# Altium footprint library Tomra_Altium_Footprints.PcbLib: 43 footprints (part 3 of 3)
Each footprint in its own frame and in the unit in brackets; x right, y up, seen from the top. Pads: shape width x height; smd on the part's side, far side on the other; paste and mask are expansions set on the pad; w line width, h text height; cw(c..) or ccw(c..) is an arc to the next point about the centre after c.
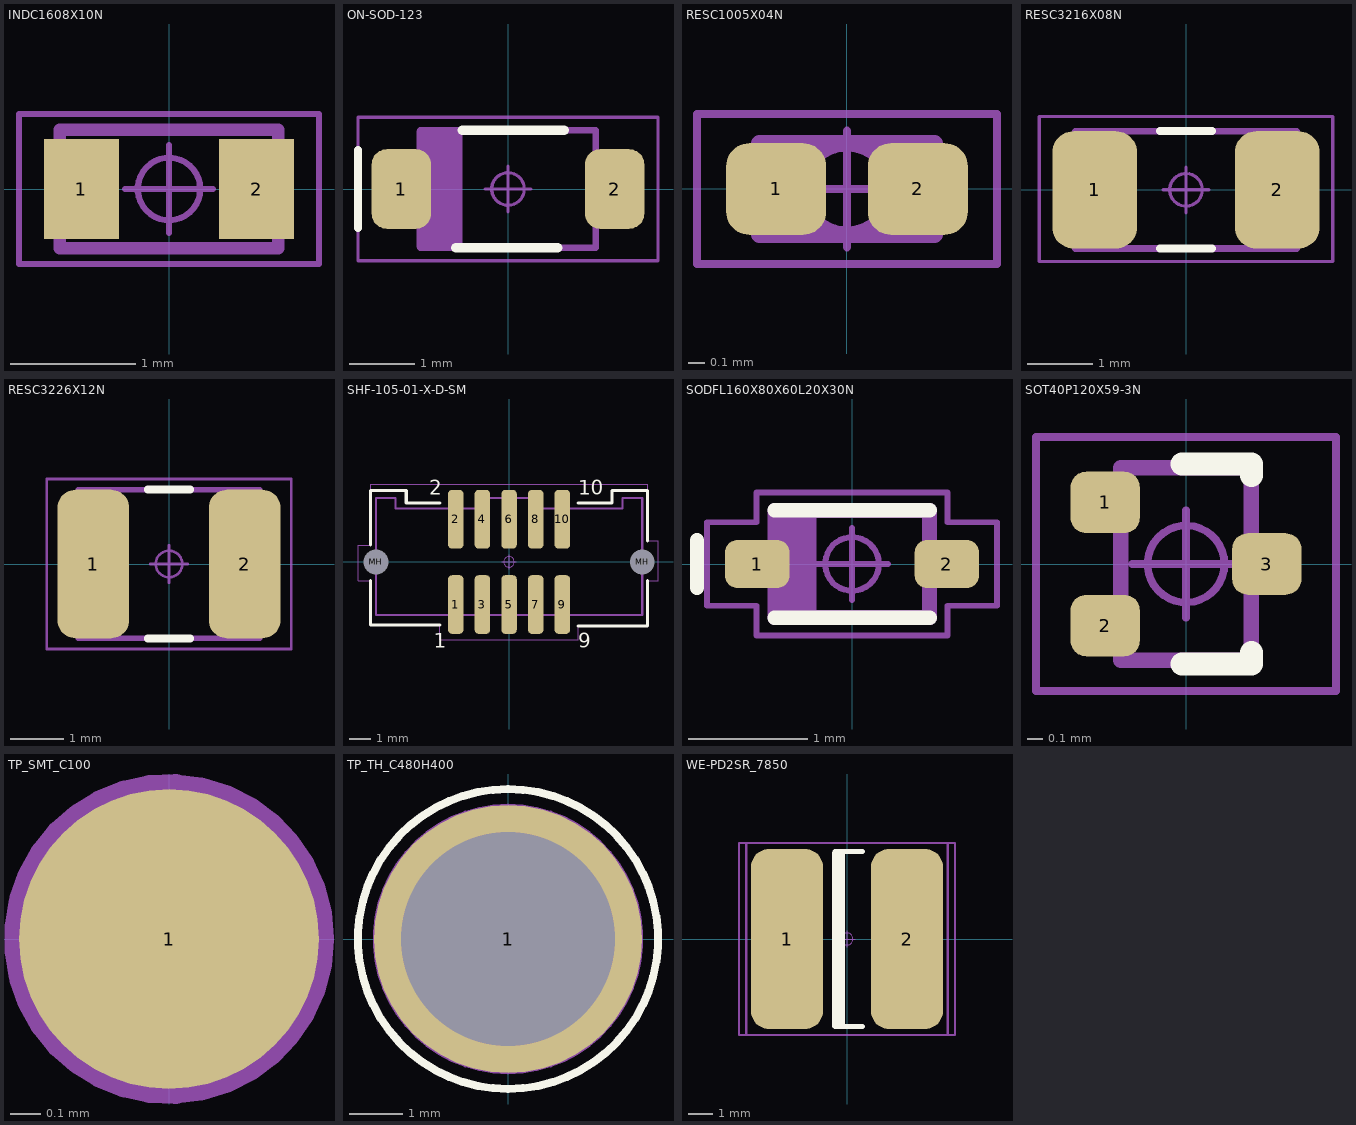
[diagram p2: the footprints below, top view; thin cyan lines are the x and y axes]

## INDC1608X10N [mm] "Chip Inductor, 2-Leads, Body 1.60x0.80mm, IPC Medium Density"
height 0.95
pads (2):
  rect 0.6x0.8 smd: 1(-0.7,0) 2(0.7,0)
Mechanical 13:
  lines w0.1: -0.875,-0.475 -0.875,0.475 0.875,0.475 0.875,-0.475 -0.875,-0.475
  text ".Designator" at -3.4,-0.6 h1.5
Mechanical 15:
  circle w0.05: c0,0 r0.25
  lines w0.05: -0.35,0 0.35,0 ; 0,-0.35 0,0.35 ; -1.2,-0.6 -1.2,0.6 1.2,0.6 1.2,-0.6 -1.2,-0.6
3D body "User Library-INDC1608X80-MURATA_LQW18A.step": height 0.81, standoff 0, extent -0.8,-0.45 0.8,0.45

## ON-SOD-123 [mm] "SOD, 2-Leads, Body 2.69x1.6mm"
height 1.35
pads (2):
  rrect50% 0.91x1.22 smd: 1(-1.635,0) 2(1.635,0)
Top Overlay:
  lines w0.12: -2.3,-0.6 -2.3,0.6
  lines w0.15: -0.8,-0.9 0.76,-0.9 ; -0.7,0.9 0.86,0.9
Mechanical 13:
  rectangle: -1.4,-0.9 -0.7,0.9
  lines w0.1: -1.345,-0.9 1.345,-0.9 1.345,0.9 -1.345,0.9 -1.345,-0.9
  text ".Designator" at -3.4,-0.6 h1.5
Mechanical 15:
  circle w0.05: c0,0 r0.25
  lines w0.05: -0.35,0 0.35,0 ; 0,-0.35 0,0.35 ; -2.3,-1.1 2.3,-1.1 2.3,1.1 -2.3,1.1 -2.3,-1.1
3D body "User Library-SOD123-1.step": height 1.18, standoff 0, extent -1.95,-0.9 1.95,0.9

## RESC1005X04N [mm] "Chip Resistor, 2-Leads, Body 1.00x0.50mm, IPC Medium Density"
height 0.4
pads (2):
  rrect50% 0.6x0.55 smd: 1(-0.425,0) 2(0.425,0)
Mechanical 13:
  lines w0.1: -0.525,-0.275 0.525,-0.275 0.525,0.275 -0.525,0.275 -0.525,-0.275
  text ".Designator" at -3.4,-0.6 h1.5
Mechanical 15:
  circle w0.05: c0,0 r0.25
  lines w0.05: -0.35,0 0.35,0 ; 0,-0.35 0,0.35 ; -0.9,-0.45 0.9,-0.45 0.9,0.45 -0.9,0.45 -0.9,-0.45
3D body "RESC1005X04N.step": height 0.4, standoff 0, extent -0.525,-0.275 0.525,0.275

## RESC3216X08N [mm] "Chip Resistor, 2-Leads, Body 3.20x1.65mm, IPC Medium Density"
height 0.75
pads (2):
  rrect50% 1.3x1.8 smd: 1(-1.4,0) 2(1.4,0)
Top Overlay:
  lines w0.12: -0.4,-0.9 0.4,-0.9 ; -0.4,0.9 0.4,0.9
Mechanical 13:
  lines w0.1: -1.7,-0.9 -1.7,0.9 1.7,0.9 1.7,-0.9 -1.7,-0.9
  text ".Designator" at -3.4,-0.6 h1.5
Mechanical 15:
  circle w0.05: c0,0 r0.25
  lines w0.05: -0.35,0 0.35,0 ; 0,-0.35 0,0.35 ; -2.25,-1.1 -2.25,1.125 2.25,1.125 2.25,-1.1 -2.25,-1.1
3D body: height 0.75, standoff 0, extent -1.2,-0.9 1.2,0.9
3D body: height 0.75, standoff 0, extent -1.7,-0.9 -1.2,0.9
3D body: height 0.75, standoff 0, extent 1.2,-0.9 1.7,0.9

## RESC3226X12N [mm] "Chip Resistor, 2-Leads, Body 3.22x2.58mm, IPC Medium Density"
height 1.25
pads (2):
  rrect50% 1.35x2.8 smd: 1(-1.425,0) 2(1.425,0)
Top Overlay:
  lines w0.15: -0.4,-1.4 0.4,-1.4 ; -0.4,1.4 0.4,1.4
Mechanical 13:
  lines w0.1: -1.715,-1.4 1.715,-1.4 1.715,1.4 -1.715,1.4 -1.715,-1.4
  text ".Designator" at -3.4,-0.6 h1.5
Mechanical 15:
  circle w0.05: c0,0 r0.25
  lines w0.05: -0.35,0 0.35,0 ; 0,-0.35 0,0.35 ; -2.3,-1.6 2.3,-1.6 2.3,1.6 -2.3,1.6 -2.3,-1.6
3D body: height 1.25, standoff 0, extent 1.215,-1.4 1.715,1.4
3D body: height 1.25, standoff 0, extent -1.715,-1.4 -1.215,1.4
3D body: height 1.25, standoff 0, extent -1.215,-1.4 1.215,1.4

## SHF-105-01-X-D-SM [mil]
pads (12):
  rrect50% 29x110 smd mask+2: 1(-100,-80) 2(-100,80) 3(-50,-80) 4(-50,80) 5(0,-80) 6(0,80) 7(50,-80) 8(50,80) 9(100,-80) 10(100,80)
  round 23.62 hole 46.85 unplated: MH(-250,0) MH(250,0)
Top Overlay:
  lines w5.91: -259.84,-35.43 -259.84,-118.11 -129.92,-118.11 ; -259.84,31.5 -259.84,133.86 -193,133.86 -193,110.24 -129.92,110.24 ; 129.92,-120 224.41,-120 259.84,-120 259.84,-35.43 ; 129.92,110.24 193,110.24 193,133.86 259.84,133.86 259.84,39.37
  text "2" at -149.61,125.98 h27.56
  text "9" at 129.92,-161.42 h27.56
  text "10" at 129.92,125.98 h27.56
  text "1" at -141.73,-161.42 h27.56
Mechanical 13:
  lines w3.94: -250,-100 -250,120 -213,120 -213,100 -50,100 -50,120 50,120 50,100 213,100 213,120 250,120 250,-100 -250,-100
  text "2" at -149.61,125.98 h27.56
  text "10" at 129.92,125.98 h27.56
  text "9" at 129.92,-161.42 h27.56
  text "1" at -141.73,-161.42 h27.56
  text ".Designator" at -133.86,-23.62 h59.06
Mechanical 15:
  circle w1.97: c0,0 r9.84
  lines w1.97: -13.78,0 13.78,0 ; 0,-13.78 0,13.78 ; -283.46,-35.43 -259.84,-35.43 -259.84,-118.11 -129.92,-118.11 -129.92,-120 -129.92,-145.67 129.92,-145.67 129.92,-120 224.41,-120 259.84,-120 259.84,-35.43 279.53,-35.43 279.53,39.37 259.84,39.37 259.84,145.67 193,145.67 129.92,145.67 -125.98,145.67 -259.84,145.67 -259.84,31.5 -283.46,31.5 -283.46,-35.43
3D body "SHF-105-01-L-D-SM.stp": height 213.94, standoff -1.06, extent -249.99,-120 250.01,120

## SODFL160X80X60L20X30N [mm] "SCD-80"
height 0.6
pads (2):
  rrect50% 0.54x0.4 smd: 1(-0.795,0) 2(0.795,0)
Top Overlay:
  lines w0.12: -1.3,-0.2 -1.3,0.2 ; -0.65,-0.45 0.65,-0.45 ; -0.65,0.45 0.65,0.45
Mechanical 13:
  rectangle: -0.7,-0.4 -0.3,0.4
  lines w0.12: -0.65,-0.45 -0.65,0.45 0.65,0.45 0.65,-0.45 -0.65,-0.45
  text ".Designator" at -1.778,-0.381 h0.8
Mechanical 15:
  circle w0.05: c0,0 r0.225
  lines w0.05: -0.3,0 0.3,0 ; 0,-0.3 0,0.3 ; -1.215,-0.35 -1.215,0.35 -0.8,0.35 -0.8,0.6 0.8,0.6 0.8,0.35 1.215,0.35 1.215,-0.35 0.8,-0.35 0.8,-0.6 -0.8,-0.6 -0.8,-0.35 -1.215,-0.35
Mechanical 31:
  lines w0.025: -0.8,-0.15 -0.6,-0.15 -0.6,0.15 -0.8,0.15 -0.8,-0.15 ; -0.6,-0.4 -0.6,0.4 0.6,0.4 0.6,-0.4 -0.6,-0.4 ; 0.6,-0.15 0.6,0.15 0.8,0.15 0.8,-0.15 0.6,-0.15
3D body "SODFL160X80X60L20X30.STEP": height 0.6, standoff 0, extent -0.85,-0.45 0.85,0.45

## SOT40P120X59-3N [mm] "SOT23, 3-Leads, Body 1.20x1.20mm, Pitch 0.40mm, IPC Medium Density"
height 0.59
pads (3):
  rrect50% 0.45x0.4 smd: 1(-0.525,0.4) 2(-0.525,-0.4) 3(0.525,0)
Top Overlay:
  lines w0.15: -0.025,-0.65 0.425,-0.65 0.425,-0.575 ; -0.025,0.65 0.425,0.65 0.425,0.575
Mechanical 13:
  lines w0.1: -0.425,-0.625 0.425,-0.625 0.425,0.625 -0.425,0.625 -0.425,-0.625
  text ".Designator" at -3.4,-0.6 h1.5
Mechanical 15:
  circle w0.05: c0,0 r0.25
  lines w0.05: -0.35,0 0.35,0 ; 0,-0.35 0,0.35 ; -0.975,-0.825 0.975,-0.825 0.975,0.825 -0.975,0.825 -0.975,-0.825
3D body: height 0.59, standoff 0.05, extent -0.425,-0.625 0.425,0.625

## TP_SMT_C100 [mm] "Test Point, SMT, pad 1mm"
pads (1):
  round 1 smd paste-0.5: 1(0,0)
Mechanical 13:
  circle w0.1: c0,0 r0.5
  text ".Designator" at -3.4,-0.6 h1.5
Mechanical 15:
  circle w0.05: c0,0 r0.25
  lines w0.05: -0.35,0 0.35,0 ; 0,-0.35 0,0.35

## TP_TH_C480H400 [mm]
height 0.1
pads (1):
  round 5 / inner round 1.524 / far side round 4.8 hole 4 paste+0 mask+0: 1(0,0)
Top Overlay:
  lines w0.15: 0,-2.8 cw(c0,0) 0,2.8 cw(c0,0) 0,-2.8
Mechanical 13:
  lines w0.05: 0,-2.5 cw(c0,0) 0,2.5 cw(c0,0) 0,-2.5 ; 0,-2 ccw(c0,0) 0,2 ccw(c0,0) 0,-2
  text ".Designator" at -3.4,-0.6 h1.5
Mechanical 15:
  circle w0.05: c0,0 r0.25
  lines w0.05: -0.35,0 0.35,0 ; 0,-0.35 0,0.35

## WE-PD2SR_7850 [mm] "Chip Inductor, 2-Leads, Body 7.8x7.0mm, IPC Medium Density"
height 5
pads (2):
  rrect50% 3x7.5 smd: 1(-2.5,0) 2(2.5,0)
Top Overlay:
  rectangle: -0.635,-3.683 -0.085,3.617
  lines w0.2: 0.65,-3.65 -0.508,-3.65 -0.508,3.65 0.65,3.65
Mechanical 13:
  lines w0.1: -4.2,-4 -4.2,4 4.2,4 4.2,-4 -4.2,-4
  text ".Designator" at -3.4,-0.6 h1.5
Mechanical 15:
  circle w0.05: c0,0 r0.25
  lines w0.05: -0.35,0 0.35,0 ; 0,-0.35 0,0.35
  lines w0.1: -4.5,-4 -4.5,4 4.5,4 4.5,-4 -4.5,-4
3D body "744787xxx.stp": height 5, standoff 0, extent -3.9,-3.5 3.9,3.5